# Altium schematic symbol library Components - 06.03.23 - 21.50.SchLib: 1 symbol
Pins are listed as number, name and electrical type; pins without a type are passive.

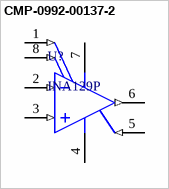
[diagram p0: symbol CMP-0992-00137-2]

## CMP-0992-00137-2
designator U?, comment INA129P
Precision, Low Power Instrumentation Amplifier, -40 to 125 degC, 8-pin DIP (P8), Green (RoHS & no Sb/Br); Manufacturer: Texas Instruments; Input Offset Drift (+/-)(Max)(uV/Degrees Celsius): 0.5; Input Bias Current (+/-)(Max)(nA): 5; Non-Linearity (+/-)(Max)(%): 0.002; Input Offset (+/-)(Max)(uV): 50; Gain(V/V): 1 to 10000; Output Offset Drift (+/-)(Max)(uV/Degrees Celsius): 20/G; Output Offset (+/-)(Max)(uV): 500/G; Number of Channels: 1; Vs(Max)(V): 36; SubFamily: Dual Supply; Vs(Min)(V): 4.5; CMRR(Min)(dB): 120; Quiescent Current (+/-)(Typ)(mA): 0.7; Noise at 1kHz(Typ)(nV/rt(Hz)): 8; ComponentLink3URL: http://www.ti.com/litv/pdf/mpdi001b; PackageVersion: 4040082/E, 04/2010; PartNumber: INA129P; ComponentLink2URL: http://www.ti.com/general/docs/lit/getliterature.tsp?genericPartNumber=INA129&fileType=pdf; ComponentLink3Description: Package Specification; Eco-Plan: Green (RoHS & no Sb/Br); ComponentLink1URL: http://www.ti.com/; ComponentLink1Description: Manufacturer URL; PackageDescription: 8-Pin Plastic In-Line, Body 9.59 x 6.35 mm, Pitch 2.54 mm; DatasheetVersion: SBOS051B; Code_JEDEC: MS-001; Mounting Technology: Through Hole; PackageReference: P0008A; ComponentLink2Description: Datasheet
footprint P0008A (DIP, 8-Leads, Body 10.15x6.6mm, Pitch 2.54mm)
pins: 1 RG (in), 2 VIN- (in), 3 VIN+ (in), 4 V- (power), 5 REF (in), 6 VO (out), 7 V+ (power), 8 RG (in)